# Altium footprint library Components - 06.07.24 - 17.47.PcbLib: 3 footprints
Each footprint in its own frame and in the unit in brackets; x right, y up, seen from the top. Pads: shape width x height; smd on the part's side, far side on the other; paste and mask are expansions set on the pad; w line width, h text height; cw(c..) or ccw(c..) is an arc to the next point about the centre after c.
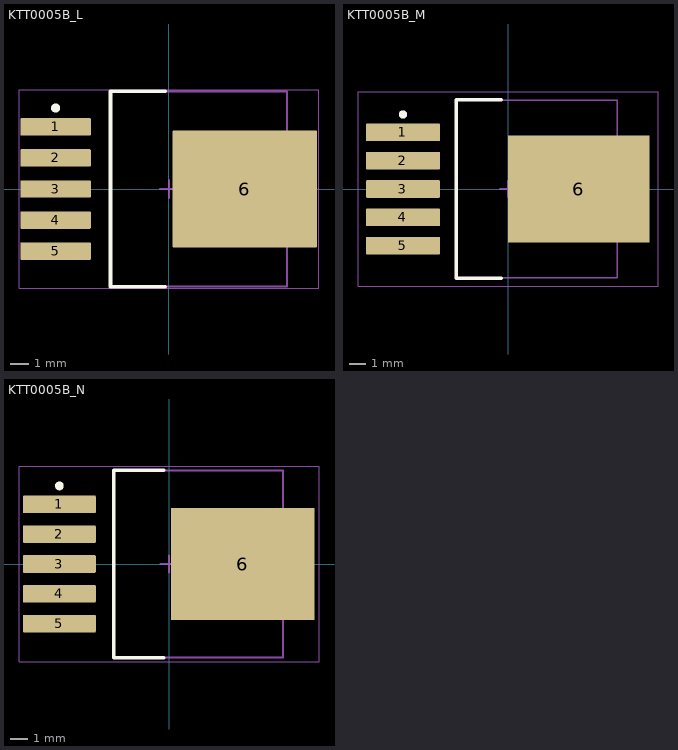
[diagram p0: the footprints below, top view; thin cyan lines are the x and y axes]

## KTT0005B_L [mm] "DPAK, 5-Leads, Body 10.65x9.65mm, Pitch 1.7mm, IPC High Density"
height 4.83
pads (6):
  rrect11% 3.85x0.95 smd: 1(-6.2,3.4) 2(-6.2,1.7) 3(-6.2,0) 4(-6.2,-1.7) 5(-6.2,-3.4)
  rrect2% 7.9x6.4 smd: 6(4.15,0)
Top Overlay:
  circle w0.25: c-6.2,4.425 r0.125
  lines w0.2: -0.2,-5.35 -3.2,-5.35 -3.2,5.35 -0.2,5.35
Mechanical 1:
  text ".Designator" at -1.905,-0.508 h1.3
Mechanical 13:
  lines w0.1: -3.2,-5.325 -3.2,5.325 6.45,5.325 6.45,-5.325 -3.2,-5.325
Mechanical 15:
  lines w0.05: -8.2,-5.425 -8.2,5.425 8.2,5.425 8.2,-5.425 -8.2,-5.425
  lines w0.1: -0.5,0 0.5,0 ; 0,-0.5 0,0.5
3D body: height 4.83, standoff 0, extent -3.2,-5.325 6.45,5.325

## KTT0005B_M [mm] "DPAK, 5-Leads, Body 10.65x9.65mm, Pitch 1.7mm, IPC Low Density"
height 4.83
pads (6):
  rrect10% 4.45x1.05 smd: 1(-6.3,3.4) 2(-6.3,1.7) 3(-6.3,0) 4(-6.3,-1.7) 5(-6.3,-3.4)
  rrect2% 8.5x6.45 smd: 6(4.25,0)
Top Overlay:
  circle w0.25: c-6.3,4.475 r0.125
  lines w0.2: -0.4,-5.35 -3.1,-5.35 -3.1,5.35 -0.4,5.35
Mechanical 1:
  text ".Designator" at -1.905,-0.635 h1.3
Mechanical 13:
  lines w0.1: -3.1,-5.325 -3.1,5.325 6.55,5.325 6.55,-5.325 -3.1,-5.325
Mechanical 15:
  lines w0.05: -9,-5.825 -9,5.825 9,5.825 9,-5.825 -9,-5.825
  lines w0.1: -0.5,0 0.5,0 ; 0,-0.5 0,0.5
3D body: height 4.83, standoff 0, extent -3.1,-5.325 6.55,5.325

## KTT0005B_N [mm] "DPAK, 5-Leads, Body 10.65x9.65mm, Pitch 1.7mm, IPC Medium Density"
height 4.83
pads (6):
  rrect10% 4.15x1 smd: 1(-6.25,3.4) 2(-6.25,1.7) 3(-6.25,0) 4(-6.25,-1.7) 5(-6.25,-3.4)
  rrect2% 8.2x6.4 smd: 6(4.2,0)
Top Overlay:
  circle w0.25: c-6.25,4.45 r0.125
  lines w0.2: -0.3,-5.35 -3.15,-5.35 -3.15,5.35 -0.3,5.35
Mechanical 1:
  text ".Designator" at -1.905,-0.508 h1.3
Mechanical 13:
  lines w0.1: -3.15,-5.325 -3.15,5.325 6.5,5.325 6.5,-5.325 -3.15,-5.325
Mechanical 15:
  lines w0.05: -8.55,-5.575 -8.55,5.575 8.55,5.575 8.55,-5.575 -8.55,-5.575
  lines w0.1: -0.5,0 0.5,0 ; 0,-0.5 0,0.5
3D body: height 4.83, standoff 0, extent -3.15,-5.325 6.5,5.325